# Altium schematic symbol library IMU Sensor.SCHLIB: 13 symbols
Pins are listed as number, name and electrical type; pins without a type are passive.

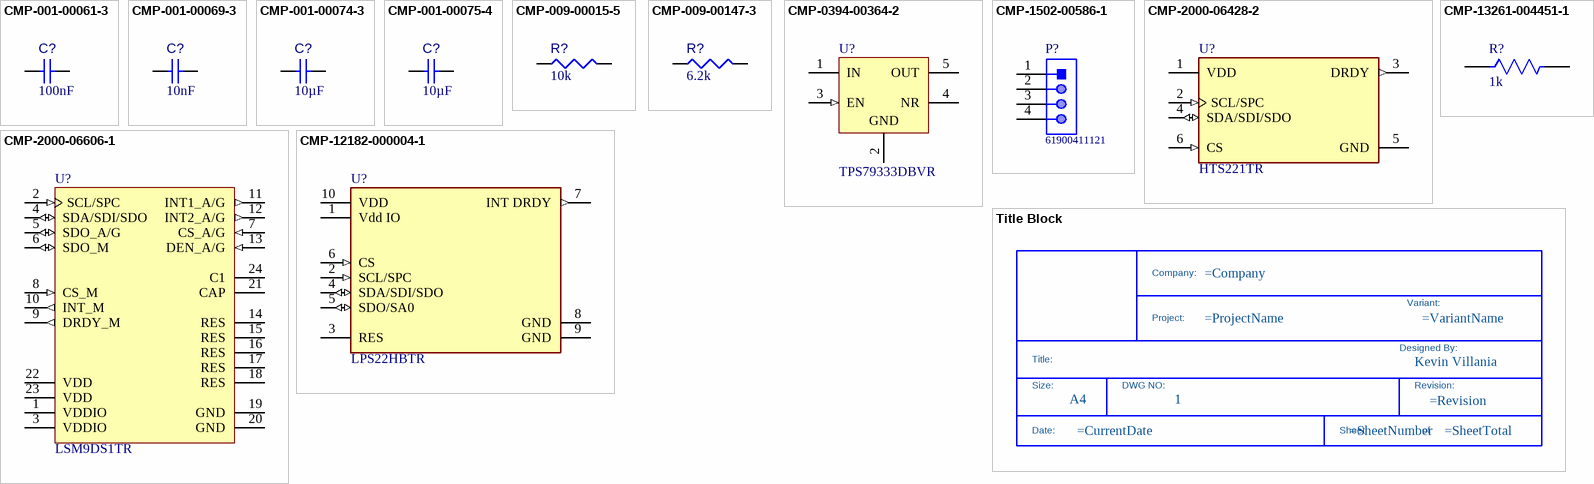
[diagram p0: symbols CMP-001-00061-3 to Title Block]

## CMP-001-00061-3
designator C?, comment value 100nF  (hidden comment: Capacitor 100nF +/-20% 10V 0402)
Chip Capacitor, 100nF +/-20%, 10V, 0402, Thickness 0.6 mm; Manufacturer 1: Yageo; Manufacturer Part Number: CC0402KRX5R6BB104; Manufacturer Part Number: C0402C104K8RACTU; Manufacturer Part Number: C1005X7R1A104K; Manufacturer Part Number: C1005X5R1A104K; Manufacturer Part Number: 0402ZD104KAT4A; Manufacturer Part Number: CC0402KPX7R6BB104; Manufacturer Part Number: C0402C104K8PAC; Manufacturer Part Number: VJ0402G104KXQPW1BC; Manufacturer Part Number: CC0402KRX7R6BB104; Manufacturer 10: Kyocera AVX; Manufacturer Part Number: 0402ZD104KAT2A; Manufacturer 11: Vishay; Manufacturer Part Number: VJ0402Y104KXQCW1BC; Manufacturer Part Number: C0402C104K8PACTU; Manufacturer Part Number: VJ0402G104KXQCW1BC; Manufacturer Part Number: VJ0402Y104KXQPW1BC; Manufacturer Part Number: GRM155R71A104KA01D; Manufacturer Part Number: C0402C104K8RAC; Tolerance: 20%; Mounting Technology: SMT; Voltage Rating: 10V; Max Operating Temperature: 85°C; Pins: 2; Case/Package: 0402; Min Operating Temperature: -55°C; Manufacturer 2: KEMET; Manufacturer 3: TDK; Manufacturer 4: TDK; Manufacturer 5: Kyocera AVX; Manufacturer 6: Yageo; Manufacturer 7: KEMET; Manufacturer 8: Vishay Vitramon; Manufacturer 9: Yageo; Manufacturer 12: KEMET; Manufacturer 13: Vishay; Manufacturer 14: Vishay Semiconductors; Manufacturer 15: Murata; Manufacturer 16: KEMET; Component Type: Capacitors
footprint CAPC0402(1005)60_L (Chip Capacitor, Body 1.0x0.5mm, Height 0.6mm, IPC High Density)
pins: 1, 2

## CMP-001-00069-3
designator C?, comment value 10nF  (hidden comment: Capacitor 10nF +/-20% 50V 0402)
Chip Capacitor, 10nF +/-20%, 50V, 0402, Thickness 0.6 mm; Manufacturer 1: Vishay Vitramon; Manufacturer Part Number: VJ0402Y103KXACW1BC; Manufacturer Part Number: C0402C103K5RAC-TU; Manufacturer Part Number: VJ0402Y103KXAAC; Manufacturer Part Number: VJ0402Y103KNAAO; Manufacturer Part Number: C0402C103K5RAC; Manufacturer Part Number: CC0402KRX7R9BB103; Manufacturer Part Number: C1005X6S1H103K; Manufacturer Part Number: GRM155R71H103KA88D; Manufacturer Part Number: C1005X7R1H103K; Tolerance: 5%; Max Operating Temperature: 85°C; Pins: 2; Case/Package: 0402; Voltage Rating: 50V; Min Operating Temperature: -55°C; Mounting Technology: SMT; Manufacturer 2: KEMET; Manufacturer 3: Vishay Semiconductors; Manufacturer 4: Vishay; Manufacturer 5: KEMET; Manufacturer 6: Yageo; Manufacturer 7: TDK; Manufacturer 8: Murata; Manufacturer 9: TDK; Component Type: Capacitors
footprint CAPC0402(1005)60_L (Chip Capacitor, Body 1.0x0.5mm, Height 0.6mm, IPC High Density)
pins: 1, 2

## CMP-001-00074-3
designator C?, comment value 10µF  (hidden comment: Capacitor 10µF +/-40% 6.3V 0402)
Chip Capacitor, 10µF +/-40%, 6.3V, 0402, Thickness 0.6 mm; Manufacturer 1: Murata; Manufacturer Part Number: GRM155R60J106ME15D; Tolerance: 10%; Case/Package: 0402; Pins: 2; Mounting Technology: SMT; Voltage Rating: 6.3V; Max Operating Temperature: 85°C; Min Operating Temperature: -55°C; Component Type: Capacitors
footprint CAPC0402(1005)60_L (Chip Capacitor, Body 1.0x0.5mm, Height 0.6mm, IPC High Density)
pins: 1, 2

## CMP-001-00075-4
designator C?, comment value 10µF  (hidden comment: Capacitor 10µF +/-20% 10V 0603)
Chip Capacitor, 10µF +/-20%, 10V, 0603, Thickness 1 mm; Manufacturer 1: Yageo; Manufacturer Part Number: CC0603KRX5R6BB106; Manufacturer Part Number: C1608X5R1A106K; Manufacturer Part Number: 0603ZD106KAT2A; Manufacturer Part Number: GRM188R61C106KAALD; Manufacturer Part Number: CL10A106KP8NNNC; Manufacturer Part Number: C1608X5R1A106K080AC; Manufacturer Part Number: GRM188R61A106KAALD; Tolerance: 10%; Voltage Rating: 10V; Max Operating Temperature: 85°C; Pins: 2; Case/Package: 0603; Mounting Technology: SMT; Min Operating Temperature: -55°C; Manufacturer 2: TDK; Manufacturer 3: Kyocera AVX; Manufacturer 4: Murata; Manufacturer 5: Samsung; Manufacturer 6: TDK; Manufacturer 7: Murata; Component Type: Capacitors
footprint CAPC0603(1608)100_L (Chip Capacitor, Body 1.6x0.8mm, Height 1.0mm, IPC High Density)
pins: 1, 2

## CMP-009-00015-5
designator R?, comment value 10k  (hidden comment: Resistor 10k +/-1% 0402 100 mW)
Chip Resistor, 10 KOhm, +/- 1%, 0.1 W, -55 to 155 degC, 0402 (1005 Metric); Manufacturer 1: Panasonic; Manufacturer Part Number: ERJ-2RKF1002X; Voltage Rating: 50V; Power: 100mW; Case/Package: 0402; RoHS Compliant: True; Min Operating Temperature: -55°C; Mounting Technology: SM; Tolerance: 1%; Max Operating Temperature: 155°C; Pins: 2; Component Type: Resistors
footprint RESC1005X40X25ML05T05 (Chip Resistor, 2-Leads, Body 1.05x0.55mm, IPC Low Density)
footprint RESC1005X40X25NL05T05 (Chip Resistor, 2-Leads, Body 1.05x0.55mm, IPC Medium Density)
footprint RESC1005X40X25LL05T05 (Chip Resistor, 2-Leads, Body 1.05x0.55mm, IPC High Density)
pins: 1, 2
1 alternate drawing of the same symbol

## CMP-009-00147-3
designator R?, comment value 6.2k  (hidden comment: Resistor 6K2  +/-5 % 0402 63 mW)
Chip Resistor, 6,2 kOhms, +/-5 %, 63 mW, -55 to 155 degC, 0402; Manufacturer 1: Vishay Dale; Manufacturer Part Number: CRCW04026K20JNTE; Manufacturer Part Number: CRCW04026K20JNED; Manufacturer Part Number: CR0402-JW-622GLF; Manufacturer Part Number: CRCW04026K20JNEE; Manufacturer Part Number: ERJ-2GEJ622X; Manufacturer Part Number: RC0402JR-076K2L; Manufacturer Part Number: CRCW04026K20JNTD; Tolerance: 5%; Power: 63mW; Min Operating Temperature: -55°C; Pins: 2; Max Operating Temperature: 155°C; Case/Package: 0402; Manufacturer 2: Vishay Dale; Manufacturer 3: Bourns; Manufacturer 4: Vishay; Manufacturer 5: Panasonic; Manufacturer 6: Yageo; Manufacturer 7: Vishay Dale; Component Type: Resistors
footprint RESC0402(1005)_L (Chip Resistor, Body 1.0x0.5mm, IPC High Density)
pins: 1, 2
1 alternate drawing of the same symbol

## CMP-0394-00364-2
designator U?, comment TPS79333DBVR
Single Output High PSRR LDO, 200 mA, Fixed 3.3 V Output, 2.7 to 5.5 V Input, 5-pin SOT-23 (DBV), -40 to 85 degC, Green (RoHS & no Sb/Br); Manufacturer: Texas Instruments; Iout(Max)(A): 0.2; Rating: Catalog; Vin(Min)(V): 2.7; Vdo(Typ)(mV): 102; Fixed Output Options(V): 3.3; Accuracy(%): 2; SubFamily: Single Channel LDO; Vin(Max)(V): 5.5; ComponentLink1URL: http://www.ti.com/; ComponentLink2URL: http://www.ti.com/general/docs/lit/getliterature.tsp?genericPartNumber=TPS79333&fileType=pdf; ComponentLink1Description: Manufacturer URL; PackageDescription: 5-Pin Plastic Small Outline, Body 1.60 Ãƒâ€” 2.90 mm, Pitch 0.95 mm; ComponentLink3URL: http://www.ti.com/litv/pdf/mpds018i; ComponentLink2Description: Datasheet; Mounting Technology: Surface Mount; ComponentLink3Description: Package Specification; PackageReference: DBV0005A; Code_JEDEC: MO-178; PartNumber: TPS79333DBVR; Vout Adj(Min)(V): 3.3; DatasheetVersion: SLVS348K; Eco-Plan: Green (RoHS & no Sb/Br); PackageVersion: 4073253-4/K; Vout Adj(Max)(V): 3.3; Iq(Typ)(mA): 0.2; Manufacturer 1: Texas Instruments; Manufacturer Part Number: TPS79333DBVR
footprint DBV0005A_M (SOT23, 5-Leads, Body 3.05x1.75mm, Pitch 0.95mm, IPC Low Density)
footprint DBV0005A_N (SOT23, 5-Leads, Body 3.05x1.75mm, Pitch 0.95mm, IPC Medium Density)
footprint DBV0005A_L (SOT23, 5-Leads, Body 3.05x1.75mm, Pitch 0.95mm, IPC High Density)
pins: 1 IN (power) "Input supply.", 2 GND (power) "Ground.", 3 EN (in) "Driving the enable pin (EN) high turns on the regulator .Driving this pin low puts the regulator into shutdown mode.EN can be connected to IN if not used.", 4 NR "Fixed voltage versions only; connecting an external capacitor to this pin bypasses noise generated by the internal bandgap. This capacitor allows output noise to be reduced to very low levels.", 5 OUT (power) "Output for the regulator. A small capacitor (total typical capacitance >= 2.0uF ceramic) is needed from this pin to ground to assure stability."

## CMP-1502-00586-1
designator P?, comment 61900411121
Male Locking Header WR-WTB, THT, Vertical, pitch 2.54 mm, 1 x 4 position; Manufacturer: Wurth Elektronik; Manufacturer 1: Wurth Electronics; Working Voltage: 250VAC; Pitch: 2.54mm; Contact Resistance: 20mOhm; Position: 1x4; Publisher: WurthElektronik; Manufacturer URL: http://www.we-online.de; Datasheet URL: https://katalog.we-online.de/em/datasheet/6190xx11121.pdf; Operating Temperature: -40to105degC; Packaging: Bag; Gender: Male; Package Reference: 61900411121; Orientation: Vertical; Mounting Technology: THT; Part Number: 61900411121; Manufacturer Part Number: 61900411121
footprint 61900411121 (2.54mm Male Locking Header, 4p)
pins: 1, 2, 3, 4

## CMP-2000-06428-2
designator U?, comment HTS221TR
SENS HUMI/TEMP 2.5V I2C 4.5% SMD; Manufacturer 1: STMicroelectronics; Resolution: 16b; Response Time: 10s; Operating Supply Voltage: 3.6V; Sensor Type: Temperature; Output Type: SPI; Accuracy: 4.5%; Lead Free: Lead Free; Radiation Hardening: No; Packaging: Tape and Reel; Max Operating Temperature: 120°C; Min Operating Temperature: -40°C; Interface: I2C; Mount: Surface Mount; Number of Pins: 6; Manufacturer Part Number: HTS221TR
footprint FP-HTS221TR-MFG
pins: 1 VDD (power), 2 SCL/SPC (in), 3 DRDY (out), 4 SDA/SDI/SDO (io), 5 GND (power), 6 CS (in)

## CMP-2000-06606-1
designator U?, comment LSM9DS1TR
iNEMO Inertial Module: 3D Accelerometer, 3D Gyroscope, 3D Magnetometer, 1.9 to 3.6 V, -40 to 85 degC, 24-Pin LGA, RoHS, Tape and Reel; Manufacturer: STMicroelectronics; SVHC: NoSVHC(17-Dec-2015); MEMS Module Function: Tri-AxisGyroscope,Tri-AxisAccelerometer,Tri-AxisMagnetometer; Supply Voltage Max: 3.6V; No. of Pins: 24Pins; Gyroscope Range: ±245°/s,±500°/s,±2000°/s; Acceleration Range: ±2g,±4g,±8g,±16g; Supply Voltage Min: 1.9V; Package Description: 24-Pin Plastic Land Grid Array Package, Body 3.65 x 3.15 mm, Pitch 0.43 mm; Manufacturer URL: http://www.st.com/; PartNumber: LSM9DS1; Product Range: -; Packaging: CutTape; Sensor Case Style: LGA; Datasheet URL: http://www2.st.com/content/ccc/resource/technical/document/datasheet/1e/3f/2a/d6/25/eb/48/46/DM00103319.pdf/files/DM00103319.pdf/jcr:content/translations/en.DM00103319.pdf; Package Reference: LGA-24_3500X3000X1000; Mounting Technology: SurfaceMount; Datasheet Version: Rev. 3, 03/2015; MSL: MSL3-168hours; Manufacturer 1: STMicroelectronics; Manufacturer Part Number: LSM9DS1TR
footprint STM-LGA-24_3500X3000X1000 (LGA, 24-Leads, Body 3.65x3.15mm, Pitch 0.43mm)
pins: 1 VDDIO (power) "Power supply for I/O pins", 2 SCL/SPC (in), 3 VDDIO (power) "Power supply for I/O pins", 4 SDA/SDI/SDO (io), 5 SDO_A/G (io), 6 SDO_M (io) "SPI serial data output (SDO) for the magnetometer. I2C least significant bit of the device address (SA0) for the magnetometer", 7 CS_A/G (in), 8 CS_M (in) "SPI enable. I2C/SPI mode selection for the magnetometer (1: SPI idle mode / I2C communication enabled; 0: SPI communication mode / I2C disabled)", 9 DRDY_M (out) "Magnetic sensor data ready", 10 INT_M (out) "Magnetic sensor interrupt", 11 INT1_A/G (out), 12 INT2_A/G (out), 13 DEN_A/G (in), 14 RES "Reserved. Connected to GND.", 15 RES "Reserved. Connected to GND.", 16 RES "Reserved. Connected to GND.", 17 RES "Reserved. Connected to GND.", 18 RES "Reserved. Connected to GND.", 19 GND (power) "0 V supply", 20 GND (power) "0 V supply", 21 CAP "Connected to GND with ceramic capacitor", 22 VDD (power) "Power supply", 23 VDD (power) "Power supply", 24 C1 "Capacitor connection (C1 = 100 nF)"

## CMP-12182-000004-1
designator U?, comment LPS22HBTR
MEMS NANO PRESSURE SENSOR: 260-1; Manufacturer: STMicroelectronics; Sensor Output: I2C,SPI; Port Style: No Port; Max Supply Voltage: 3.6V; Operating Supply Current: 3-12uA; Min Supply Voltage: 1.7V; Device Class L3: unset; Device Class L1: Sensors; Manufacturer Part Number: LPS22HBTR; Temperature Range High: +85°C; Digikey Description: MEMS NANO PRESSURE SENSOR: 260-1; Device Class L2: Pressure Sensors; RoHS: TRUE; Lead Free: Yes; Height: 0.8mm; Automotive: No; Octopart: https://octopart.com/lps22hbtr-stmicroelectronics-51851131; Package: HLGA-10L-8479831; Temperature Range Low: -40°C; Category: IC; Temperature: -40°C to +85°C; ComponentLink2Description: Datasheet; ComponentLink2URL: https://www.st.com/resource/en/datasheet/lps22hb.pdf; Footprint Url: https://www.st.com/content/ccc/resource/technical/document/technical_note/73/17/9c/16/dd/96/4a/01/CD00134799.pdf/files/CD00134799.pdf/jcr:content/translations/en.CD00134799.pdf; Manufacturer 1: STMicroelectronics
footprint FP-HLGA-10L-8479831-0
pins: 1 Vdd IO (power), 2 SCL/SPC (in), 3 RES, 4 SDA/SDI/SDO (io), 5 SDO/SA0 (io), 6 CS (in), 7 INT DRDY (out), 8 GND (power), 9 GND (power), 10 VDD (power)

## CMP-13261-004451-1
designator R?, comment 1k
Res Thick Film 0402 1kΩ 1% 0.063W ±100ppm/°C Molded SMD T/R; Manufacturer 1: Samsung; Manufacturer Part Number: RC1005F102CS; Voltage Rating (DC): 50V; Max Power Dissipation: 63mW; Resistance: 1kR; Composition: Thick Film; Lead Free: Lead Free; Max Operating Temperature: 155°C; Height: 0.016inch; Number of Terminations: 2; Features: Moisture Resistant; Min Operating Temperature: -55°C; Temperature Coefficient: 100ppm/°C; Case Code (Imperial): 0402; Radiation Hardening: No; Military Standard: Not; Depth: 0.5mm; Tolerance: 1%; Case/Package: 0402; Case Code (Metric): 1005; Packaging: Tape and Reel; Length: 1mm; Width: 0.02inch; Contact Plating: Tin
footprint FP-RC1005-IPC_A
footprint FP-RC1005-IPC_C
footprint FP-RC1005-IPC_B
footprint FP-RC1005-MFG
pins: 1, 2

## Title Block
designator *?  Designed By: Kevin Villania  DWG NO: 1  Size: A4  (hidden comment: Title Block)  (graphical)
Standard Title Block
text: Company:; Variant:; Project:; Designed By:; Title:; Size:; DWG NO:; Revision:; Date:; Sheet; of